# EAGLE library part RFM70 (library Eagle-JeeLabs)
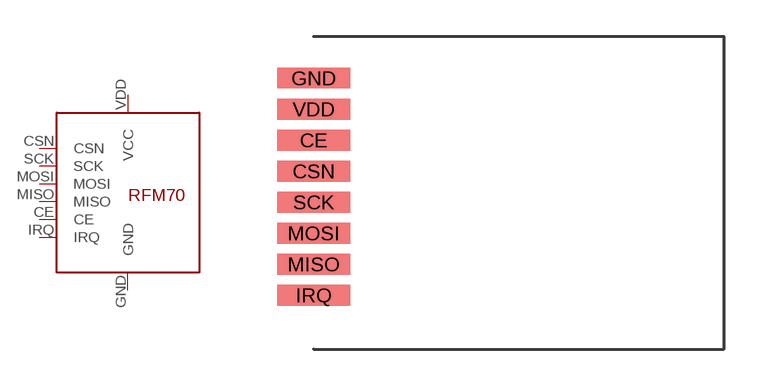
[diagram p27: symbol with the pads of RFM70; footprint RFM70]

Designator prefix -

## RFM70  [RFM70]
CE  CE
CSN  CSN  in
GND  GND  pwr
IRQ  IRQ  oc
MISO  MISO  out
MOSI  MOSI  in
SCK  SCK  in
VDD  VCC  pwr

## Footprint RFM70 (pad centres in mm)
smd 3 x 0.85: CE -8.4,2.16; CSN -8.4,0.89; GND -8.4,4.7; IRQ -8.4,-4.19; MISO -8.4,-2.92; MOSI -8.4,-1.65; SCK -8.4,-0.38; VDD -8.4,3.43